# Altium integrated library CONNECTORS - DIN.IntLib: 2 symbols
Pins are listed as number, name and electrical type; pins without a type are passive.

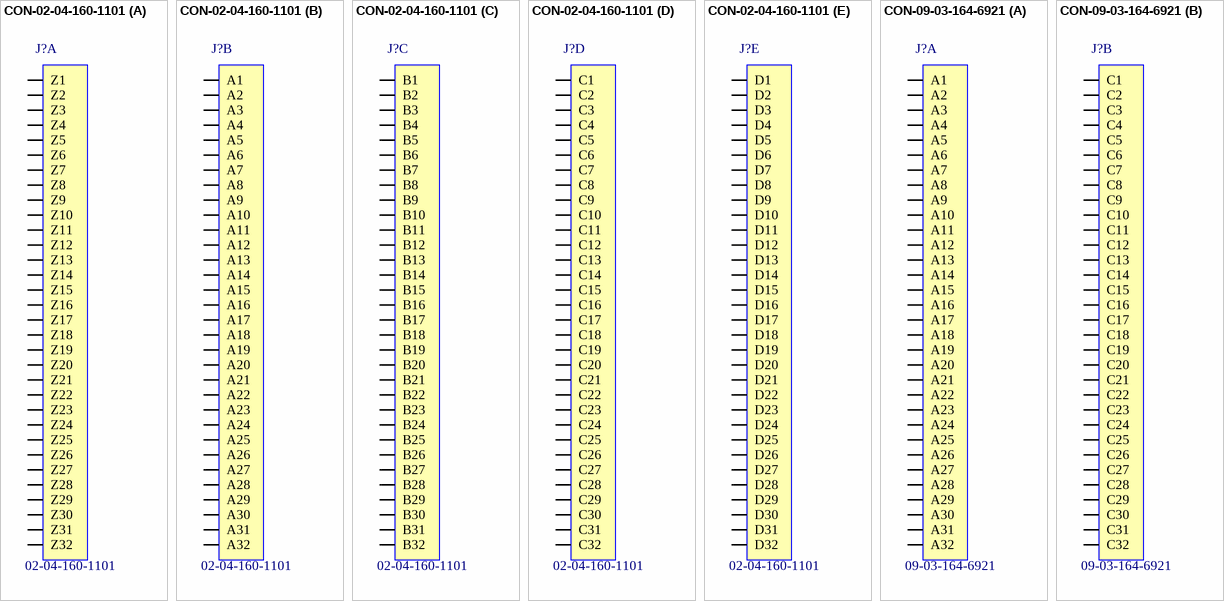
[diagram p0: symbols CON-02-04-160-1101 to CON-09-03-164-6921]

## CON-02-04-160-1101
designator J?, comment 02-04-160-1101
Female, 160 pin, VMEx64 DIN connector, 100mil pitch, Right Angle, PCB Mount, Through Hole, Right Angle, Male; Manufacturer: Harting; Mates with (PCB): 0-8457-160-001-025; Rows: 5; Mates with (Wire housing): *; Mounting Type: Through Hole, Right Angle; PackageDescription: 160 pin, VMEx64 DIN connector, 100mil pitch, Right Angle, PCB Mount; Package Reference: VMEx64-160RA; Pins: 160; Pitch: 100mil; Supplier 1: Newark; Supplier Part Number 1: 79K4437; Supplier 2: Arrow; Supplier Part Number 2: EKlrgSWOAlDCmvS4xoUxgSOZELOJm26lf3Z35Nh9N_Y; Supplier 3: Mouser; Supplier Part Number 3: 617-02-04-160-1101; Part Number: 02-04-160-1101
footprint HAR-BUS64_RT_ANGLE_SOCKET
3D model 0204_DIN_har-bus_64_TransConn_angled_female_160 (PCB3D Model)
part A pins: Z1, Z2, Z3, Z4, Z5, Z6, Z7, Z8, Z9, Z10, Z11, Z12, Z13, Z14, Z15, Z16, Z17, Z18, Z19, Z20, Z21, Z22, Z23, Z24, Z25, Z26, Z27, Z28, Z29, Z30, Z31, Z32
part B pins: A1, A2, A3, A4, A5, A6, A7, A8, A9, A10, A11, A12, A13, A14, A15, A16, A17, A18, A19, A20, A21, A22, A23, A24, A25, A26, A27, A28, A29, A30, A31, A32
part C pins: B1, B2, B3, B4, B5, B6, B7, B8, B9, B10, B11, B12, B13, B14, B15, B16, B17, B18, B19, B20, B21, B22, B23, B24, B25, B26, B27, B28, B29, B30, B31, B32
part D pins: C1, C2, C3, C4, C5, C6, C7, C8, C9, C10, C11, C12, C13, C14, C15, C16, C17, C18, C19, C20, C21, C22, C23, C24, C25, C26, C27, C28, C29, C30, C31, C32
part E pins: D1, D2, D3, D4, D5, D6, D7, D8, D9, D10, D11, D12, D13, D14, D15, D16, D17, D18, D19, D20, D21, D22, D23, D24, D25, D26, D27, D28, D29, D30, D31, D32

## CON-09-03-164-6921
designator J?, comment 09-03-164-6921
Connector; DIN 41612, Type C, Thru-Hole; Rows a+c, 64 Position; Right Angle, Male; Manufacturer: Harting; Pitch: 100mil; Rows: 2; Mates with (Wire housing): *; Mounting Type: Through Hole; PackageDescription: DIN 41612, Type C, Thru-Hole; Rows a+c, 64 Position; Right Angle; Package Reference: HART-64DIN-AC-RA-M; Pins: 64; Supplier 1: Mouser; Supplier Part Number 1: 617-09-03-164-6921; Supplier 2: Newark; Supplier Part Number 2: 79K4451; Supplier 3: Arrow; Supplier Part Number 3: WQPLBESE5vvpDhLWg9XTbwlxqGKS10J4V_ruFqrYFeQ; Part Number: 09-03-164-6921
3D model 0903_DIN_Type_C_angled_male_96_pole (PCB3D Model)
footprint HART-64DIN-AC-RA-M (Connector; DIN 41612, Type C, Thru-Hole; Rows a+c, 64 Position; Right Angle)
part A pins: A1, A2, A3, A4, A5, A6, A7, A8, A9, A10, A11, A12, A13, A14, A15, A16, A17, A18, A19, A20, A21, A22, A23, A24, A25, A26, A27, A28, A29, A30, A31, A32
part B pins: C1, C2, C3, C4, C5, C6, C7, C8, C9, C10, C11, C12, C13, C14, C15, C16, C17, C18, C19, C20, C21, C22, C23, C24, C25, C26, C27, C28, C29, C30, C31, C32